# EAGLE library part 621X16242921 (library Eagle_BOARD-TO-BOARD_CONNECTORS (rev18b))
WR-PHD 2.00mm Dual SMT Socket Header, 16 Pins=>Code : Con_BTB_SHD_2.00_2_621x16242921(Packaging:x = 0: Tube x = 3: Tape & Reel with Cap; 600 pcs/Reel) <http://katalog.we-online.de/media/images/v2/Family_Dual_Socket_Header_WR-PHD_6130xx242921.jpg> 6210xx242921 Details see: http://katalog.we-online.de/en/em/PHD_2_00_SMT_DUAL_SOCKET_HEADER_6210XX242921 6213xx242921 Details see: http://katalog.we-online.de/en/em/PHD_2_00_SMT_DUAL_SOCKET_HEADER_REEL_6213XX242921 2014 (C) Würth Elektronik
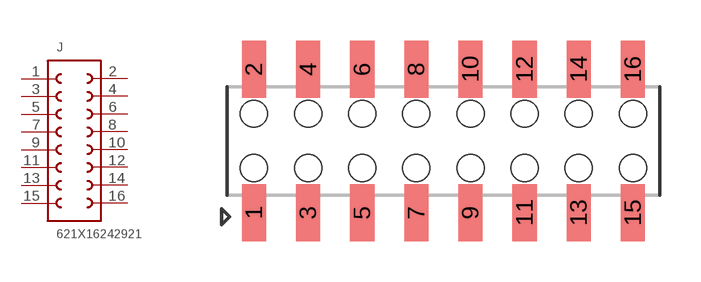
[diagram p259: symbol with the pads of 621X16242921; footprint 621X16242921]

Designator prefix J

## 621X16242921  [621X16242921]
1  1  pas
2  16  pas
3  2  pas
4  15  pas
5  3  pas
6  14  pas
7  4  pas
8  13  pas
9  5  pas
10  12  pas
11  6  pas
12  11  pas
13  7  pas
14  10  pas
15  8  pas
16  9  pas

## Footprint 621X16242921 (pad centres in mm)
WR-PHD 2.00mm Dual SMT Socket Header, 16 Pins
smd 0.89 x 2.1: 1 -7,-2.65; 2 -7,2.65; 3 -5,-2.65; 4 -5,2.65; 5 -3,-2.65; 6 -3,2.65; 7 -1,-2.65; 8 -1,2.65; 9 1,-2.65; 10 1,2.65; 11 3,-2.65; 12 3,2.65; 13 5,-2.65; 14 5,2.65; 15 7,-2.65; 16 7,2.65
hole 1 at -7,1
hole 1 at -5,1
hole 1 at -5,-1
hole 1 at -7,-1
hole 1 at -3,1
hole 1 at -3,-1
hole 1 at -1,-1
hole 1 at -1,1
hole 1 at 1,1
hole 1 at 1,-1
hole 1 at 3,-1
hole 1 at 5,-1
hole 1 at 5,1
hole 1 at 3,1
hole 1 at 7,1
hole 1 at 7,-1